# Altium footprint library STABILIZERS_Mklib.PcbLib: 12 footprints
Each footprint in its own frame and in the unit in brackets; x right, y up, seen from the top. Pads: shape width x height; smd on the part's side, far side on the other; paste and mask are expansions set on the pad; w line width, h text height; cw(c..) or ccw(c..) is an arc to the next point about the centre after c.
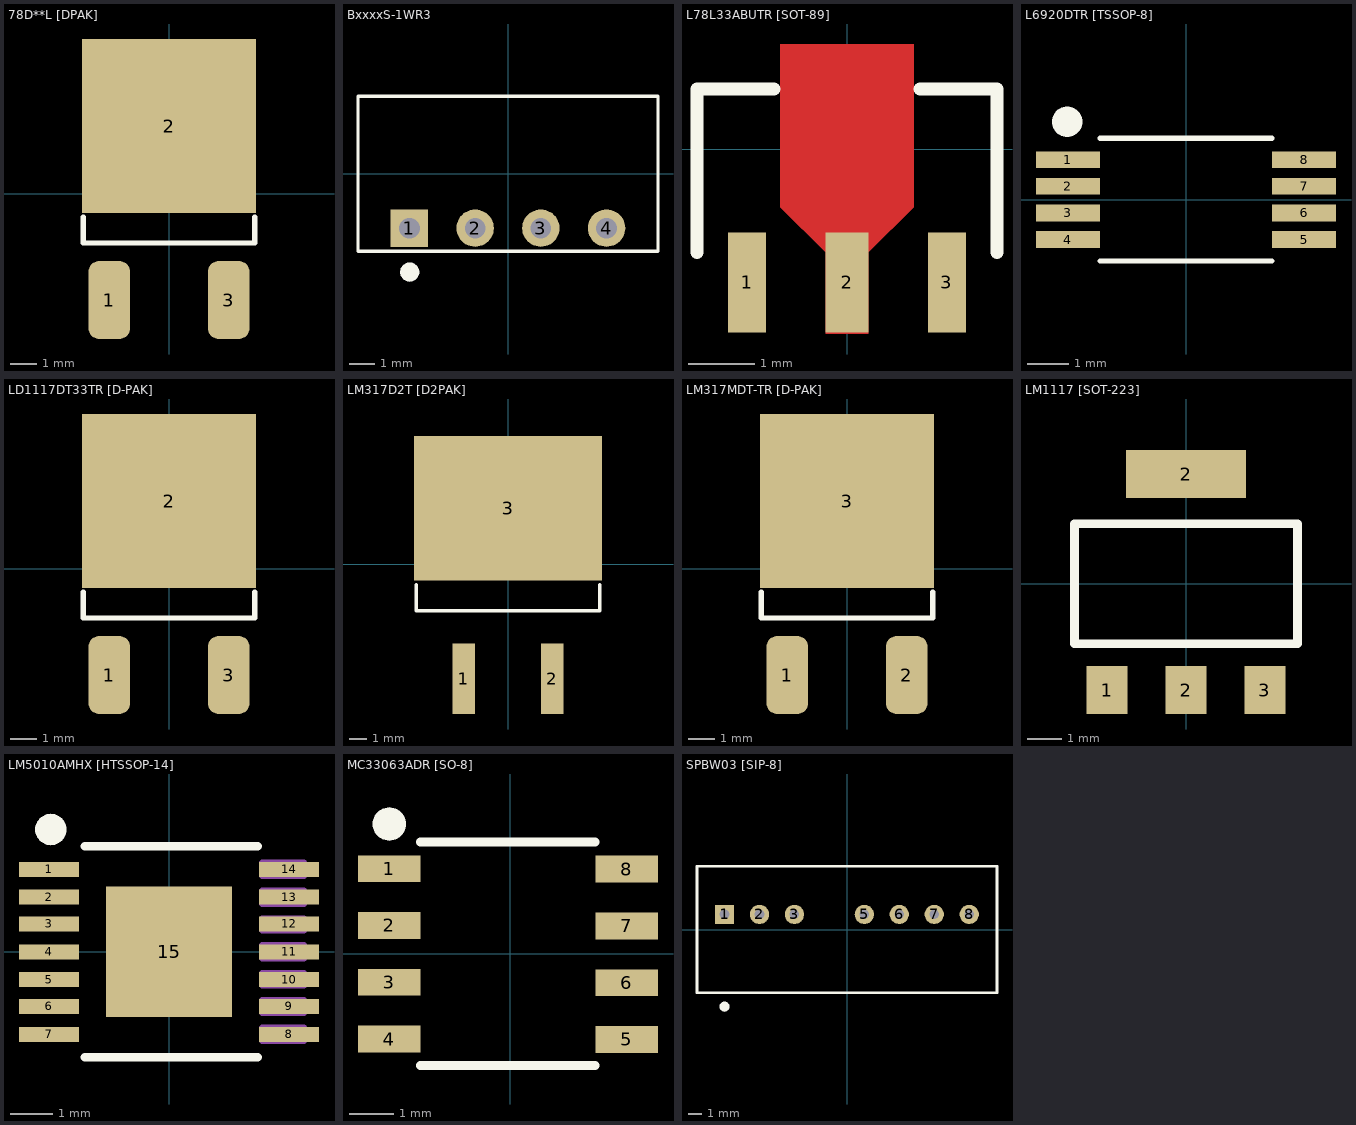
[diagram p0: the footprints below, top view; thin cyan lines are the x and y axes]

## 78D**L [DPAK] [mm]
pads (3):
  rrect50% 1.6x3 smd: 1(-2.3,-4.1) 3(2.3,-4.1)
  rect 6.7x6.7 smd: 2(0,2.6)
Top Overlay:
  lines w0.2: -3.3,-0.9 -3.3,-1.9 3.3,-1.9 3.3,-0.9
3D body "LM317MDT-TR_DPAK.STEP": height 2.37, standoff -0.03, extent -3.25,-4.743 3.25,4.982

## BxxxxS-1WR3 [mm]
height 10.41
pads (5):
  rect 1.45x1.45 hole 0.8: 1(-3.81,-2.1)
  round 1.45 hole 0.8: 2(-1.27,-2.1) 3(1.27,-2.1) 4(3.81,-2.1)
  round 0.75 on Top Overlay: ""(-3.8,-3.8)
Top Overlay:
  lines w0.127: -5.8,-3 -5.8,3 5.8,3 5.8,-3 -5.8,-3
3D body "step_temp.STEP": height 10.16, standoff -4.1, extent -5.8,-3 5.8,3

## L78L33ABUTR [SOT-89] [mm]
pads (3):
  rect 0.57x1.5 smd: 1(-1.5,-2) 3(1.5,-2)
  rect 0.65x1.5 smd: 2(0,-2)
Top Layer:
  region: -1,1.57 1,1.57 1,-0.87 0.32,-1.55 0.32,-2.77 -0.32,-2.77 -0.32,-1.55 -1,-0.87
Top Overlay:
  lines w0.2: -2.25,-1.55 -2.25,0.9 -1.1,0.9 ; 1.1,0.9 2.25,0.9 2.25,-1.55
3D body "L78L33ABUTR_SOT89.STEP": height 1.6, standoff 0, extent -2.25,-2.597 2.25,1.498

## L6920DTR [TSSOP-8] [mm]
pads (9):
  rect 1.56x0.41 smd: 1(-2.88,0.975) 2(-2.88,0.325) 3(-2.88,-0.325) 4(-2.88,-0.975) 5(2.88,-0.975) 6(2.88,-0.325) 7(2.88,0.325) 8(2.88,0.975)
  round 0.75 on Top Overlay: ""(-2.9,1.9)
Top Overlay:
  lines w0.127: -2.1,-1.5 2.1,-1.5 ; -2.1,1.5 2.1,1.5
3D body "L6920DTR_TSSOP_8.STEP": height 1.21, standoff 0.01, extent -3.2,-1.5 3.2,1.5

## LD1117DT33TR [D-PAK] [mm]
pads (3):
  rrect50% 1.6x3 smd: 1(-2.3,-4.1) 3(2.3,-4.1)
  rect 6.7x6.7 smd: 2(0,2.6)
Top Overlay:
  lines w0.2: -3.3,-0.9 -3.3,-1.9 3.3,-1.9 3.3,-0.9
3D body "LM317MDT-TR_DPAK.STEP": height 2.37, standoff -0.03, extent -3.25,-4.743 3.25,4.982

## LM317D2T [D2PAK] [mm]
height 4.7
pads (3):
  rect 1.27x4.05 smd: 1(-2.54,-6.55) 2(2.54,-6.55)
  rect 10.8x8.3 smd paste-6: 3(0,3.225)
Top Overlay:
  lines w0.2: -5.25,-1.15 -5.25,-2.65 5.25,-2.65 5.25,-1.15
3D body "step_temp.STEP": height 4.7, standoff 0, extent -5.25,-8.22 5.25,7.02

## LM317MDT-TR [D-PAK] [mm]
pads (3):
  rrect50% 1.6x3 smd: 1(-2.3,-4.1) 2(2.3,-4.1)
  rect 6.7x6.7 smd: 3(0,2.6)
Top Overlay:
  lines w0.2: -3.3,-0.9 -3.3,-1.9 3.3,-1.9 3.3,-0.9
3D body "LM317MDT-TR_DPAK.STEP": height 2.37, standoff -0.03, extent -3.25,-4.743 3.25,4.982

## LM1117 [SOT-223] [mm]
pads (4):
  rect 1.2x1.4 smd: 1(-2.3,-3.1) 2(0,-3.1) 3(2.3,-3.1)
  rect 3.5x1.4 smd: 2(0,3.2)
Top Overlay:
  lines w0.254: -3.25,-1.75 3.25,-1.75 3.25,1.75 -3.25,1.75 -3.25,-1.75
3D body "LM1117_SOT223.STEP": height 1.8, standoff 0, extent -3.25,-3.499 3.25,3.499

## LM5010AMHX [HTSSOP-14] [mil]
pads (16):
  rect 56x14 smd: 1(-112,77) 2(-112,51) 3(-112,26) 4(-112,0) 5(-112,-26) 6(-112,-51) 7(-112,-77) 8(112,-77) 9(112,-51) 10(112,-26) 11(112,0) 12(112,26) 13(112,51) 14(112,77)
  rect 118x122 smd: 15(0,0)
  round 29.53 on Top Overlay: ""(-110.24,114.17)
Top Overlay:
  lines w7.87: -78.74,-98.43 82.68,-98.43 ; -78.74,98.43 82.68,98.43
Mechanical 13:
  lines w6: 126,-83 87,-83 87,-71 126,-71 ; 126,-57 87,-57 87,-45 126,-45 ; 126,-31 87,-31 87,-20 126,-20 ; 126,-6 87,-6 87,6 126,6 ; 126,20 87,20 87,31 126,31 ; 126,45 87,45 87,57 126,57 ; 126,71 87,71 87,83 126,83
3D body "LM5010AMHX_NOPB_HTSSOP_14.STEP": height 47.24, standoff 0, extent -125.98,-98.43 125.98,98.43

## MC33063ADR [SO-8] [mm]
pads (9):
  rect 1.4x0.6 smd: 1(-2.7,1.9) 2(-2.7,0.63) 3(-2.7,-0.64) 4(-2.7,-1.91) 5(2.61,-1.92) 6(2.61,-0.65) 7(2.61,0.62) 8(2.61,1.89)
  round 0.75 on Top Overlay: ""(-2.7,2.9)
Top Overlay:
  lines w0.2: -2,-2.5 1.9,-2.5 ; -2,2.5 1.9,2.5
3D body "MC33063ADR_SO8.STEP": height 1.75, standoff 0, extent -3,-2.45 3,2.45

## SPBW03 [SIP-8] [mm]
pads (8):
  rect 1.4x1.4 hole 0.7: 1(-8.9,1.1)
  round 1.4 hole 0.7: 2(-6.36,1.1) 3(-3.82,1.1) 5(1.26,1.1) 6(3.8,1.1) 7(6.34,1.1) 8(8.88,1.1)
  round 0.75 on Top Overlay: ""(-8.9,-5.6)
Top Overlay:
  lines w0.2: -10.9,-4.6 10.9,-4.6 10.9,4.6 -10.9,4.6 -10.9,-4.6
3D body "SPBW03F-05_SIP_8.STEP": height 11.1, standoff -4.1, extent -10.9,-4.6 10.9,4.6

## TPS61094DSSR [WSON-12] [mm]